# Altium footprint library TSSOP_40P_M.PcbLib: 19 footprints (part 2 of 2)
Each footprint in its own frame and in the unit in brackets; x right, y up, seen from the top. Pads: shape width x height; smd on the part's side, far side on the other; paste and mask are expansions set on the pad; w line width, h text height; cw(c..) or ccw(c..) is an arc to the next point about the centre after c.
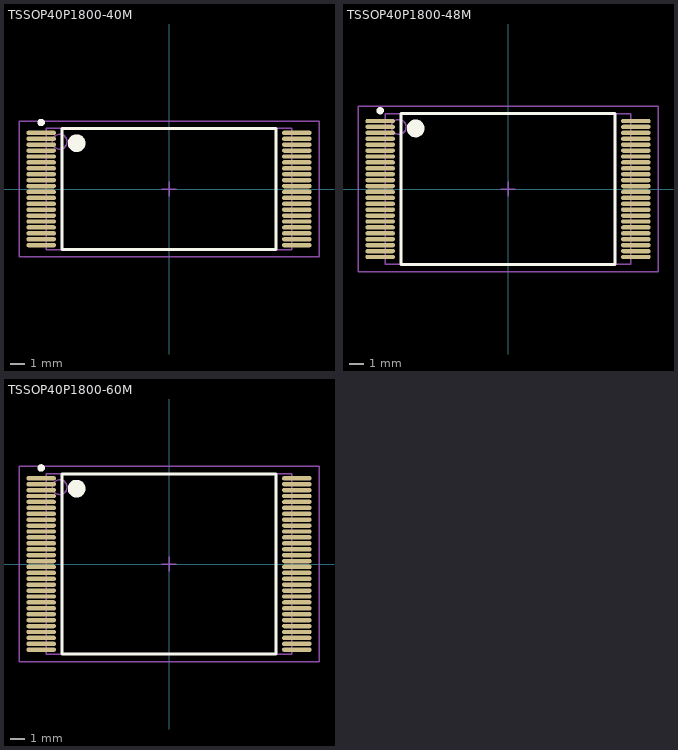
[diagram p1: the footprints below, top view; thin cyan lines are the x and y axes]

## TSSOP40P1800-40M [mm] "TSSOP, 40-Leads, Body 8x16.4mm, Pitch 0.4mm, IPC Low Density"
height 1.27
pads (40):
  oval 2x0.3 smd: 1(-8.65,3.8) 2(-8.65,3.4) 3(-8.65,3) 4(-8.65,2.6) 5(-8.65,2.2) 6(-8.65,1.8) 7(-8.65,1.4) 8(-8.65,1) 9(-8.65,0.6) 10(-8.65,0.2) 11(-8.65,-0.2) 12(-8.65,-0.6) 13(-8.65,-1) 14(-8.65,-1.4) 15(-8.65,-1.8) 16(-8.65,-2.2) 17(-8.65,-2.6) 18(-8.65,-3) 19(-8.65,-3.4) 20(-8.65,-3.8) 21(8.65,-3.8) 22(8.65,-3.4) 23(8.65,-3) 24(8.65,-2.6) 25(8.65,-2.2) 26(8.65,-1.8) 27(8.65,-1.4) 28(8.65,-1) 29(8.65,-0.6) 30(8.65,-0.2) 31(8.65,0.2) 32(8.65,0.6) 33(8.65,1) 34(8.65,1.4) 35(8.65,1.8) 36(8.65,2.2) 37(8.65,2.6) 38(8.65,3) 39(8.65,3.4) 40(8.65,3.8)
Top Overlay:
  circle w0.6: c-6.25,3.1 r0.3
  circle w0.25: c-8.65,4.5 r0.125
  lines w0.2: -7.25,-4.1 7.25,-4.1 7.25,4.1 -7.25,4.1 -7.25,-4.1
Mechanical 13:
  circle w0.1: c-7.4,3.2 r0.5
  lines w0.1: -8.3,-4.1 8.3,-4.1 8.3,4.1 -8.3,4.1 -8.3,-4.1
Mechanical 15:
  lines w0.1: -0.5,0 0.5,0 ; 0,-0.5 0,0.5 ; -10.15,-4.6 10.15,-4.6 10.15,4.6 -10.15,4.6 -10.15,-4.6
3D body: height 1.27, standoff 0, extent -8.3,-4.1 8.3,4.1

## TSSOP40P1800-48M [mm] "TSSOP, 48-Leads, Body 10x16.4mm, Pitch 0.4mm, IPC Low Density"
height 1.27
pads (48):
  oval 2x0.3 smd: 1(-8.65,4.6) 2(-8.65,4.2) 3(-8.65,3.8) 4(-8.65,3.4) 5(-8.65,3) 6(-8.65,2.6) 7(-8.65,2.2) 8(-8.65,1.8) 9(-8.65,1.4) 10(-8.65,1) 11(-8.65,0.6) 12(-8.65,0.2) 13(-8.65,-0.2) 14(-8.65,-0.6) 15(-8.65,-1) 16(-8.65,-1.4) 17(-8.65,-1.8) 18(-8.65,-2.2) 19(-8.65,-2.6) 20(-8.65,-3) 21(-8.65,-3.4) 22(-8.65,-3.8) 23(-8.65,-4.2) 24(-8.65,-4.6) 25(8.65,-4.6) 26(8.65,-4.2) 27(8.65,-3.8) 28(8.65,-3.4) 29(8.65,-3) 30(8.65,-2.6) 31(8.65,-2.2) 32(8.65,-1.8) 33(8.65,-1.4) 34(8.65,-1) 35(8.65,-0.6) 36(8.65,-0.2) 37(8.65,0.2) 38(8.65,0.6) 39(8.65,1) 40(8.65,1.4) 41(8.65,1.8) 42(8.65,2.2) 43(8.65,2.6) 44(8.65,3) 45(8.65,3.4) 46(8.65,3.8) 47(8.65,4.2) 48(8.65,4.6)
Top Overlay:
  circle w0.6: c-6.25,4.1 r0.3
  circle w0.25: c-8.65,5.3 r0.125
  lines w0.2: -7.25,-5.1 7.25,-5.1 7.25,5.1 -7.25,5.1 -7.25,-5.1
Mechanical 13:
  circle w0.1: c-7.4,4.2 r0.5
  lines w0.1: -8.3,-5.1 8.3,-5.1 8.3,5.1 -8.3,5.1 -8.3,-5.1
Mechanical 15:
  lines w0.1: -0.5,0 0.5,0 ; 0,-0.5 0,0.5 ; -10.15,-5.6 10.15,-5.6 10.15,5.6 -10.15,5.6 -10.15,-5.6
3D body: height 1.27, standoff 0, extent -8.3,-5.1 8.3,5.1

## TSSOP40P1800-60M [mm] "TSSOP, 60-Leads, Body 12x16.4mm, Pitch 0.4mm, IPC Low Density"
height 1.27
pads (60):
  oval 2x0.3 smd: 1(-8.65,5.8) 2(-8.65,5.4) 3(-8.65,5) 4(-8.65,4.6) 5(-8.65,4.2) 6(-8.65,3.8) 7(-8.65,3.4) 8(-8.65,3) 9(-8.65,2.6) 10(-8.65,2.2) 11(-8.65,1.8) 12(-8.65,1.4) 13(-8.65,1) 14(-8.65,0.6) 15(-8.65,0.2) 16(-8.65,-0.2) 17(-8.65,-0.6) 18(-8.65,-1) 19(-8.65,-1.4) 20(-8.65,-1.8) 21(-8.65,-2.2) 22(-8.65,-2.6) 23(-8.65,-3) 24(-8.65,-3.4) 25(-8.65,-3.8) 26(-8.65,-4.2) 27(-8.65,-4.6) 28(-8.65,-5) 29(-8.65,-5.4) 30(-8.65,-5.8) 31(8.65,-5.8) 32(8.65,-5.4) 33(8.65,-5) 34(8.65,-4.6) 35(8.65,-4.2) 36(8.65,-3.8) 37(8.65,-3.4) 38(8.65,-3) 39(8.65,-2.6) 40(8.65,-2.2) 41(8.65,-1.8) 42(8.65,-1.4) 43(8.65,-1) 44(8.65,-0.6) 45(8.65,-0.2) 46(8.65,0.2) 47(8.65,0.6) 48(8.65,1) 49(8.65,1.4) 50(8.65,1.8) 51(8.65,2.2) 52(8.65,2.6) 53(8.65,3) 54(8.65,3.4) 55(8.65,3.8) 56(8.65,4.2) 57(8.65,4.6) 58(8.65,5) 59(8.65,5.4) 60(8.65,5.8)
Top Overlay:
  circle w0.6: c-6.25,5.1 r0.3
  circle w0.25: c-8.65,6.5 r0.125
  lines w0.2: -7.25,-6.1 7.25,-6.1 7.25,6.1 -7.25,6.1 -7.25,-6.1
Mechanical 13:
  circle w0.1: c-7.4,5.2 r0.5
  lines w0.1: -8.3,-6.1 8.3,-6.1 8.3,6.1 -8.3,6.1 -8.3,-6.1
Mechanical 15:
  lines w0.1: -0.5,0 0.5,0 ; 0,-0.5 0,0.5 ; -10.15,-6.6 10.15,-6.6 10.15,6.6 -10.15,6.6 -10.15,-6.6
3D body: height 1.27, standoff 0, extent -8.3,-6.1 8.3,6.1